# Altium schematic symbol library WR-TBL_Rising Cage Clamp.SchLib: 433 symbols (part 7 of 8)
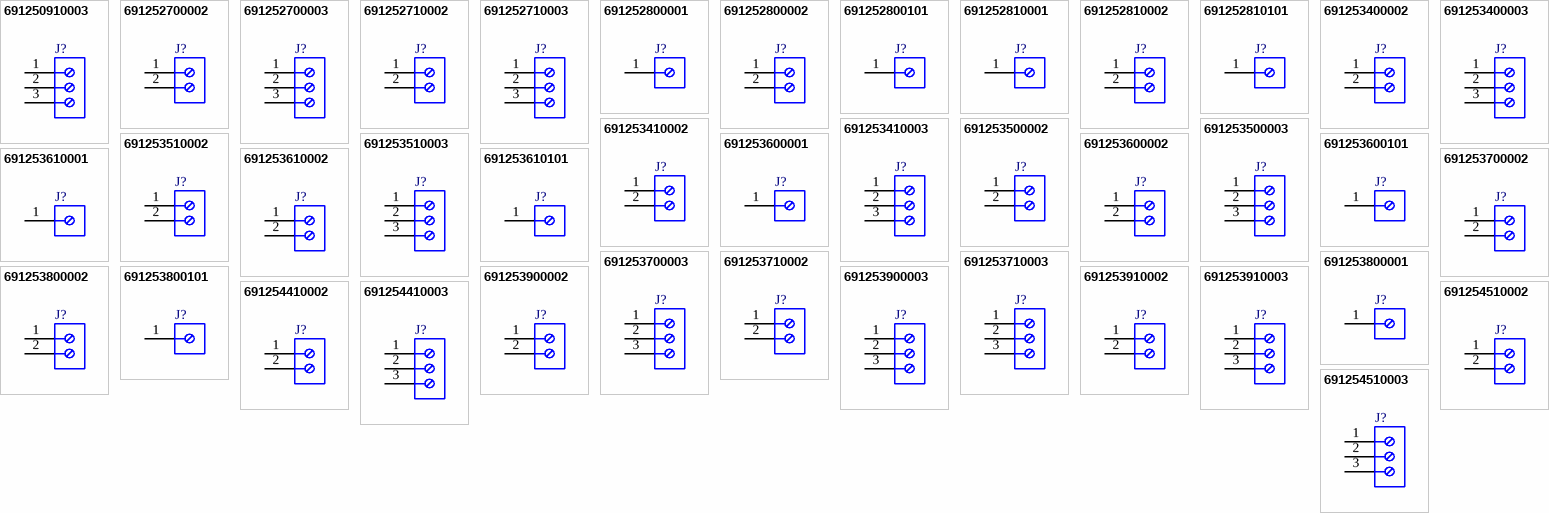
[diagram p16: symbols 691250910003 to 691254510003]

## 691252800101
designator J?  (value not drawn)
WR-TBL Series 2528 Vertical Entry Modular, THT, pitch 10mm, 01p; Manufacturer: Wurth Elektronik; Modularity: Yes; Rated Current: 16A; Wire Section: 12 to 30 (AWG) 3.31 to 0.05 (mm^2); Working Voltage: 300V (AC); Manufacturer Part Number: 691252800101; Product Series: WR-TBL; ComponentLink1Description: Website Link; ComponentLink1URL: https://www.we-online.com; ComponentLink2Description: Datasheet Link; ComponentLink2URL: https://www.we-online.com/components/products/datasheet/691252800101; Mount: Through Hole; Operating Temperature Min: -30degC; Operating Temperature Max: 120degC; Packaging: Box; Application: Rising Cage Clamp; Number of Pins: 1; Number of Rows: 1; Orientation: Vertical; Lead Pitch: 10mm
footprint 691252800101
pins: 1

## 691252810001
designator J?  (value not drawn)
WR-TBL Series 2528 Horizontal Entry Modular, THT, pitch 10mm, 01p; Manufacturer: Wurth Elektronik; Modularity: Yes; Rated Current: 16A; Wire Section: 12 to 30 (AWG) 3.31 to 0.05 (mm^2); Working Voltage: 300V (AC); Manufacturer Part Number: 691252810001; Product Series: WR-TBL; ComponentLink1Description: Website Link; ComponentLink1URL: https://www.we-online.com; ComponentLink2Description: Datasheet Link; ComponentLink2URL: https://www.we-online.com/components/products/datasheet/691252810001; Mount: Through Hole; Operating Temperature Min: -30degC; Operating Temperature Max: 120degC; Packaging: Box; Application: Rising Cage Clamp; Number of Pins: 1; Number of Rows: 1; Orientation: Horizontal; Lead Pitch: 10mm
footprint 691252810001
pins: 1

## 691252810002
designator J?  (value not drawn)
WR-TBL Series 2528 Horizontal Entry Modular, THT, pitch 10mm, 02p; Manufacturer: Wurth Elektronik; Modularity: Yes; Rated Current: 16A; Wire Section: 12 to 30 (AWG) 3.31 to 0.05 (mm^2); Working Voltage: 300V (AC); Manufacturer Part Number: 691252810002; Product Series: WR-TBL; ComponentLink1Description: Website Link; ComponentLink1URL: https://www.we-online.com; ComponentLink2Description: Datasheet Link; ComponentLink2URL: https://www.we-online.com/components/products/datasheet/691252810002; Mount: Through Hole; Operating Temperature Min: -30degC; Operating Temperature Max: 120degC; Packaging: Box; Application: Rising Cage Clamp; Number of Pins: 2; Number of Rows: 1; Orientation: Horizontal; Lead Pitch: 10mm
footprint 691252810002
pins: 1, 2

## 691252810101
designator J?  (value not drawn)
WR-TBL Series 2528 Horizontal Entry Modular, THT, pitch 10mm, 01p; Manufacturer: Wurth Elektronik; Modularity: Yes; Rated Current: 16A; Wire Section: 12 to 30 (AWG) 3.31 to 0.05 (mm^2); Working Voltage: 300V (AC); Manufacturer Part Number: 691252810101; Product Series: WR-TBL; ComponentLink1Description: Website Link; ComponentLink1URL: https://www.we-online.com; ComponentLink2Description: Datasheet Link; ComponentLink2URL: https://www.we-online.com/components/products/datasheet/691252810101; Mount: Through Hole; Operating Temperature Min: -30degC; Operating Temperature Max: 120degC; Packaging: Box; Application: Rising Cage Clamp; Number of Pins: 1; Number of Rows: 1; Orientation: Horizontal; Lead Pitch: 10mm
footprint 691252810101
pins: 1

## 691253400002
designator J?  (value not drawn)
WR-TBL Series 2534 Vertical Entry Modular, THT, pitch 7.62mm, 02p; Manufacturer: Wurth Elektronik; Modularity: Yes; Rated Current: 16A; Wire Section: 12 to 30 (AWG) 3.31 to 0.0509 (mm^2); Working Voltage: 300V (AC); Manufacturer Part Number: 691253400002; Product Series: WR-TBL; ComponentLink1Description: Website Link; ComponentLink1URL: https://www.we-online.com; ComponentLink2Description: Datasheet Link; ComponentLink2URL: https://www.we-online.com/components/products/datasheet/691253400002; Mount: Through Hole; Operating Temperature Min: -30degC; Operating Temperature Max: 120degC; Packaging: Box; Application: Rising Cage Clamp; Number of Pins: 2; Number of Rows: 1; Orientation: Vertical; Lead Pitch: 7.62mm
footprint 691253400002
pins: 1, 2

## 691253400003
designator J?  (value not drawn)
WR-TBL Series 2534 Vertical Entry Modular, THT, pitch 7.62mm, 03p; Manufacturer: Wurth Elektronik; Modularity: Yes; Rated Current: 16A; Wire Section: 12 to 30 (AWG) 3.31 to 0.0509 (mm^2); Working Voltage: 300V (AC); Manufacturer Part Number: 691253400003; Product Series: WR-TBL; ComponentLink1Description: Website Link; ComponentLink1URL: https://www.we-online.com; ComponentLink2Description: Datasheet Link; ComponentLink2URL: https://www.we-online.com/components/products/datasheet/691253400003; Mount: Through Hole; Operating Temperature Min: -30degC; Operating Temperature Max: 120degC; Packaging: Box; Application: Rising Cage Clamp; Number of Pins: 3; Number of Rows: 1; Orientation: Vertical; Lead Pitch: 7.62mm
footprint 691253400003
pins: 1, 2, 3

## 691253410002
designator J?  (value not drawn)
WR-TBL Series 2534 Horizontal Entry Modular, THT, pitch 7.62mm, 02p; Manufacturer: Wurth Elektronik; Modularity: Yes; Rated Current: 16A; Wire Section: 12 to 30 (AWG) 3.31 to 0.0509 (mm^2); Working Voltage: 300V (AC); Manufacturer Part Number: 691253410002; Product Series: WR-TBL; ComponentLink1Description: Website Link; ComponentLink1URL: https://www.we-online.com; ComponentLink2Description: Datasheet Link; ComponentLink2URL: https://www.we-online.com/components/products/datasheet/691253410002; Mount: Through Hole; Operating Temperature Min: -30degC; Operating Temperature Max: 120degC; Packaging: Box; Application: Rising Cage Clamp; Number of Pins: 2; Number of Rows: 1; Orientation: Horizontal; Lead Pitch: 7.62mm
footprint 691253410002
pins: 1, 2

## 691253410003
designator J?  (value not drawn)
WR-TBL Series 2534 Horizontal Entry Modular, THT, pitch 7.62mm, 03p; Manufacturer: Wurth Elektronik; Modularity: Yes; Rated Current: 16A; Wire Section: 12 to 30 (AWG) 3.31 to 0.0509 (mm^2); Working Voltage: 300V (AC); Manufacturer Part Number: 691253410003; Product Series: WR-TBL; ComponentLink1Description: Website Link; ComponentLink1URL: https://www.we-online.com; ComponentLink2Description: Datasheet Link; ComponentLink2URL: https://www.we-online.com/components/products/datasheet/691253410003; Mount: Through Hole; Operating Temperature Min: -30degC; Operating Temperature Max: 120degC; Packaging: Box; Application: Rising Cage Clamp; Number of Pins: 3; Number of Rows: 1; Orientation: Horizontal; Lead Pitch: 7.62mm
footprint 691253410003
pins: 1, 2, 3

## 691253500002
designator J?  (value not drawn)
WR-TBL Series 2535 Vertical Entry Modular, THT, pitch 5.08mm, 02p; Manufacturer: Wurth Elektronik; Modularity: No; Rated Current: 16A; Wire Section: 12 to 30 (AWG) 3.31 to 0.0509 (mm^2); Working Voltage: 300V (AC); Manufacturer Part Number: 691253500002; Product Series: WR-TBL; ComponentLink1Description: Website Link; ComponentLink1URL: https://www.we-online.com; ComponentLink2Description: Datasheet Link; ComponentLink2URL: https://www.we-online.com/components/products/datasheet/691253500002; Mount: Through Hole; Operating Temperature Min: -30degC; Operating Temperature Max: 120degC; Packaging: Box; Application: Rising Cage Clamp; Number of Pins: 2; Number of Rows: 1; Orientation: Vertical; Lead Pitch: 5.08mm
footprint 691253500002
pins: 1, 2

## 691253500003
designator J?  (value not drawn)
WR-TBL Series 2535 Vertical Entry Modular, THT, pitch 5.08mm, 03p; Manufacturer: Wurth Elektronik; Modularity: No; Rated Current: 16A; Wire Section: 12 to 30 (AWG) 3.31 to 0.0509 (mm^2); Working Voltage: 300V (AC); Manufacturer Part Number: 691253500003; Product Series: WR-TBL; ComponentLink1Description: Website Link; ComponentLink1URL: https://www.we-online.com; ComponentLink2Description: Datasheet Link; ComponentLink2URL: https://www.we-online.com/components/products/datasheet/691253500003; Mount: Through Hole; Operating Temperature Min: -30degC; Operating Temperature Max: 120degC; Packaging: Box; Application: Rising Cage Clamp; Number of Pins: 3; Number of Rows: 1; Orientation: Vertical; Lead Pitch: 5.08mm
footprint 691253500003
pins: 1, 2, 3

## 691253510002
designator J?  (value not drawn)
WR-TBL Series 2535 Horizontal Entry Modular, THT, pitch 5.08mm, 02p; Manufacturer: Wurth Elektronik; Modularity: Yes; Rated Current: 16A; Wire Section: 12 to 30 (AWG) 0.05 to 3.31 (mm^2); Working Voltage: 300V (AC); Manufacturer Part Number: 691253510002; Product Series: WR-TBL; ComponentLink1Description: Website Link; ComponentLink1URL: https://www.we-online.com; ComponentLink2Description: Datasheet Link; ComponentLink2URL: https://www.we-online.com/components/products/datasheet/691253510002; Mount: Through Hole; Operating Temperature Min: -30degC; Operating Temperature Max: 120degC; Packaging: Box; Application: Rising Cage Clamp; Number of Pins: 2; Number of Rows: 1; Orientation: Horizontal; Lead Pitch: 5.08mm
footprint 691253510002
pins: 1, 2

## 691253510003
designator J?  (value not drawn)
WR-TBL Series 2535 Horizontal Entry Modular, THT, pitch 5.08mm, 03p; Manufacturer: Wurth Elektronik; Modularity: Yes; Rated Current: 16A; Wire Section: 12 to 30 (AWG) 0.05 to 3.31 (mm^2); Working Voltage: 300V (AC); Manufacturer Part Number: 691253510003; Product Series: WR-TBL; ComponentLink1Description: Website Link; ComponentLink1URL: https://www.we-online.com; ComponentLink2Description: Datasheet Link; ComponentLink2URL: https://www.we-online.com/components/products/datasheet/691253510003; Mount: Through Hole; Operating Temperature Min: -30degC; Operating Temperature Max: 120degC; Packaging: Box; Application: Rising Cage Clamp; Number of Pins: 3; Number of Rows: 1; Orientation: Horizontal; Lead Pitch: 5.08mm
footprint 691253510003
pins: 1, 2, 3

## 691253600001
designator J?  (value not drawn)
WR-TBL Series 2536 Vertical Entry Modular, THT, pitch 10.16mm, 01p; Manufacturer: Wurth Elektronik; Modularity: Yes; Rated Current: 16A; Wire Section: 12 to 30 (AWG) 3.31 to 0.0509 (mm^2); Working Voltage: 300V (AC); Manufacturer Part Number: 691253600001; Product Series: WR-TBL; ComponentLink1Description: Website Link; ComponentLink1URL: https://www.we-online.com; ComponentLink2Description: Datasheet Link; ComponentLink2URL: https://www.we-online.com/components/products/datasheet/691253600001; Mount: Through Hole; Operating Temperature Min: -30degC; Operating Temperature Max: 120degC; Packaging: Box; Application: Rising Cage Clamp; Number of Pins: 1; Number of Rows: 1; Orientation: Vertical; Lead Pitch: 10.16mm
footprint 691253600001
pins: 1

## 691253600002
designator J?  (value not drawn)
WR-TBL Series 2536 Vertical Entry Modular, THT, pitch 10.16mm, 02p; Manufacturer: Wurth Elektronik; Modularity: Yes; Rated Current: 16A; Wire Section: 12 to 30 (AWG) 3.31 to 0.0509 (mm^2); Working Voltage: 300V (AC); Manufacturer Part Number: 691253600002; Product Series: WR-TBL; ComponentLink1Description: Website Link; ComponentLink1URL: https://www.we-online.com; ComponentLink2Description: Datasheet Link; ComponentLink2URL: https://www.we-online.com/components/products/datasheet/691253600002; Mount: Through Hole; Operating Temperature Min: -30degC; Operating Temperature Max: 120degC; Packaging: Box; Application: Rising Cage Clamp; Number of Pins: 2; Number of Rows: 1; Orientation: Vertical; Lead Pitch: 10.16mm
footprint 691253600002
pins: 1, 2

## 691253600101
designator J?  (value not drawn)
WR-TBL Series 2536 Vertical Entry Modular, THT, pitch 10.16mm, 01p; Manufacturer: Wurth Elektronik; Modularity: Yes; Rated Current: 16A; Wire Section: 12 to 30 (AWG) 3.31 to 0.0509 (mm^2); Working Voltage: 300V (AC); Manufacturer Part Number: 691253600101; Product Series: WR-TBL; ComponentLink1Description: Website Link; ComponentLink1URL: https://www.we-online.com; ComponentLink2Description: Datasheet Link; ComponentLink2URL: https://www.we-online.com/components/products/datasheet/691253600101; Mount: Through Hole; Operating Temperature Min: -30degC; Operating Temperature Max: 120degC; Packaging: Box; Application: Rising Cage Clamp; Number of Pins: 1; Number of Rows: 1; Orientation: Vertical; Lead Pitch: 10.16mm
footprint 691253600101
pins: 1

## 691253610001
designator J?  (value not drawn)
WR-TBL Series 2536 Horizontal Entry Modular, THT, pitch 10.16mm, 01p; Manufacturer: Wurth Elektronik; Modularity: Yes; Rated Current: 16A; Wire Section: 12 to 30 (AWG) 3.31 to 0.0509 (mm^2); Working Voltage: 300V (AC); Manufacturer Part Number: 691253610001; Product Series: WR-TBL; ComponentLink1Description: Website Link; ComponentLink1URL: https://www.we-online.com; ComponentLink2Description: Datasheet Link; ComponentLink2URL: https://www.we-online.com/components/products/datasheet/691253610001; Mount: Through Hole; Operating Temperature Min: -30degC; Operating Temperature Max: 120degC; Packaging: Box; Application: Rising Cage Clamp; Number of Pins: 1; Number of Rows: 1; Orientation: Horizontal; Lead Pitch: 10.16mm
footprint 691253610001
pins: 1

## 691253610002
designator J?  (value not drawn)
WR-TBL Series 2536 Horizontal Entry Modular, THT, pitch 10.16mm, 02p; Manufacturer: Wurth Elektronik; Modularity: Yes; Rated Current: 16A; Wire Section: 12 to 30 (AWG) 3.31 to 0.0509 (mm^2); Working Voltage: 300V (AC); Manufacturer Part Number: 691253610002; Product Series: WR-TBL; ComponentLink1Description: Website Link; ComponentLink1URL: https://www.we-online.com; ComponentLink2Description: Datasheet Link; ComponentLink2URL: https://www.we-online.com/components/products/datasheet/691253610002; Mount: Through Hole; Operating Temperature Min: -30degC; Operating Temperature Max: 120degC; Packaging: Box; Application: Rising Cage Clamp; Number of Pins: 2; Number of Rows: 1; Orientation: Horizontal; Lead Pitch: 10.16mm
footprint 691253610002
pins: 1, 2

## 691253610101
designator J?  (value not drawn)
WR-TBL Series 2536 Horizontal Entry Modular, THT, pitch 10.16mm, 01p; Manufacturer: Wurth Elektronik; Modularity: Yes; Rated Current: 16A; Wire Section: 12 to 30 (AWG) 3.31 to 0.0509 (mm^2); Working Voltage: 300V (AC); Manufacturer Part Number: 691253610101; Product Series: WR-TBL; ComponentLink1Description: Website Link; ComponentLink1URL: https://www.we-online.com; ComponentLink2Description: Datasheet Link; ComponentLink2URL: https://www.we-online.com/components/products/datasheet/691253610101; Mount: Through Hole; Operating Temperature Min: -30degC; Operating Temperature Max: 120degC; Packaging: Box; Application: Rising Cage Clamp; Number of Pins: 1; Number of Rows: 1; Orientation: Horizontal; Lead Pitch: 10.16mm
footprint 691253610101
pins: 1

## 691253700002
designator J?  (value not drawn)
WR-TBL Series 2537 Vertical Entry Modular, THT, pitch 5mm, 02p; Manufacturer: Wurth Elektronik; Modularity: Yes; Rated Current: 16A; Wire Section: 30 to 12 (AWG) 0.0509 to 3.31 (mm^2); Working Voltage: 300V (AC); Manufacturer Part Number: 691253700002; Product Series: WR-TBL; ComponentLink1Description: Website Link; ComponentLink1URL: https://www.we-online.com; ComponentLink2Description: Datasheet Link; ComponentLink2URL: https://www.we-online.com/components/products/datasheet/691253700002; Mount: Through Hole; Operating Temperature Min: -30degC; Operating Temperature Max: 120degC; Packaging: Box; Application: Rising Cage Clamp; Number of Pins: 2; Number of Rows: 1; Orientation: Vertical; Lead Pitch: 5mm
footprint 691253700002
pins: 1, 2

## 691253700003
designator J?  (value not drawn)
WR-TBL Series 2537 Vertical Entry Modular, THT, pitch 5mm, 03p; Manufacturer: Wurth Elektronik; Modularity: Yes; Rated Current: 16A; Wire Section: 30 to 12 (AWG) 0.0509 to 3.31 (mm^2); Working Voltage: 300V (AC); Manufacturer Part Number: 691253700003; Product Series: WR-TBL; ComponentLink1Description: Website Link; ComponentLink1URL: https://www.we-online.com; ComponentLink2Description: Datasheet Link; ComponentLink2URL: https://www.we-online.com/components/products/datasheet/691253700003; Mount: Through Hole; Operating Temperature Min: -30degC; Operating Temperature Max: 120degC; Packaging: Box; Application: Rising Cage Clamp; Number of Pins: 3; Number of Rows: 1; Orientation: Vertical; Lead Pitch: 5mm
footprint 691253700003
pins: 1, 2, 3

## 691253710002
designator J?  (value not drawn)
WR-TBL Series 2537 Horizontal Entry Modular, THT, pitch 5mm, 02p; Manufacturer: Wurth Elektronik; Modularity: Yes; Rated Current: 16A; Wire Section: 30 to 12 (AWG) 0.0509 to 3.31 (mm^2); Working Voltage: 300V (AC); Manufacturer Part Number: 691253710002; Product Series: WR-TBL; ComponentLink1Description: Website Link; ComponentLink1URL: https://www.we-online.com; ComponentLink2Description: Datasheet Link; ComponentLink2URL: https://www.we-online.com/components/products/datasheet/691253710002; Mount: Through Hole; Operating Temperature Min: -30degC; Operating Temperature Max: 120degC; Packaging: Box; Application: Rising Cage Clamp; Number of Pins: 2; Number of Rows: 1; Orientation: Horizontal; Lead Pitch: 5mm
footprint 691253710002
pins: 1, 2

## 691253710003
designator J?  (value not drawn)
WR-TBL Series 2537 Horizontal Entry Modular, THT, pitch 5mm, 03p; Manufacturer: Wurth Elektronik; Modularity: Yes; Rated Current: 16A; Wire Section: 30 to 12 (AWG) 0.0509 to 3.31 (mm^2); Working Voltage: 300V (AC); Manufacturer Part Number: 691253710003; Product Series: WR-TBL; ComponentLink1Description: Website Link; ComponentLink1URL: https://www.we-online.com; ComponentLink2Description: Datasheet Link; ComponentLink2URL: https://www.we-online.com/components/products/datasheet/691253710003; Mount: Through Hole; Operating Temperature Min: -30degC; Operating Temperature Max: 120degC; Packaging: Box; Application: Rising Cage Clamp; Number of Pins: 3; Number of Rows: 1; Orientation: Horizontal; Lead Pitch: 5mm
footprint 691253710003
pins: 1, 2, 3

## 691253800001
designator J?  (value not drawn)
WR-TBL Series 2538 Vertical Entry Modular, THT, pitch 10mm, 01p; Manufacturer: Wurth Elektronik; Modularity: Yes; Rated Current: 16A; Wire Section: 12 to 30 (AWG) 3.31 to 0.0509 (mm^2); Working Voltage: 300V (AC); Manufacturer Part Number: 691253800001; Product Series: WR-TBL; ComponentLink1Description: Website Link; ComponentLink1URL: https://www.we-online.com; ComponentLink2Description: Datasheet Link; ComponentLink2URL: https://www.we-online.com/components/products/datasheet/691253800001; Mount: Through Hole; Operating Temperature Min: -30degC; Operating Temperature Max: 120degC; Packaging: Box; Application: Rising Cage Clamp; Number of Pins: 1; Number of Rows: 1; Orientation: Vertical; Lead Pitch: 10mm
footprint 691253800001
pins: 1

## 691253800002
designator J?  (value not drawn)
WR-TBL Series 2538 Vertical Entry Modular, THT, pitch 10mm, 02p; Manufacturer: Wurth Elektronik; Modularity: Yes; Rated Current: 16A; Wire Section: 12 to 30 (AWG) 3.31 to 0.0509 (mm^2); Working Voltage: 300V (AC); Manufacturer Part Number: 691253800002; Product Series: WR-TBL; ComponentLink1Description: Website Link; ComponentLink1URL: https://www.we-online.com; ComponentLink2Description: Datasheet Link; ComponentLink2URL: https://www.we-online.com/components/products/datasheet/691253800002; Mount: Through Hole; Operating Temperature Min: -30degC; Operating Temperature Max: 120degC; Packaging: Box; Application: Rising Cage Clamp; Number of Pins: 2; Number of Rows: 1; Orientation: Vertical; Lead Pitch: 10mm
footprint 691253800002
pins: 1, 2

## 691253800101
designator J?  (value not drawn)
WR-TBL Series 2538 Vertical Entry Modular, THT, pitch 10mm, 01p; Manufacturer: Wurth Elektronik; Modularity: Yes; Rated Current: 16A; Wire Section: 12 to 30 (AWG) 3.31 to 0.0509 (mm^2); Working Voltage: 300V (AC); Manufacturer Part Number: 691253800101; Product Series: WR-TBL; ComponentLink1Description: Website Link; ComponentLink1URL: https://www.we-online.com; ComponentLink2Description: Datasheet Link; ComponentLink2URL: https://www.we-online.com/components/products/datasheet/691253800101; Mount: Through Hole; Operating Temperature Min: -30degC; Operating Temperature Max: 120degC; Packaging: Box; Application: Rising Cage Clamp; Number of Pins: 1; Number of Rows: 1; Orientation: Vertical; Lead Pitch: 10mm
footprint 691253800101
pins: 1

## 691253900002
designator J?  (value not drawn)
WR-TBL Series 2539 Vertical Entry Modular, THT, pitch 7.5mm, 02p; Manufacturer: Wurth Elektronik; Modularity: Yes; Rated Current: 16A; Wire Section: 12 to 30 (AWG) 3.31 to 0.0509 (mm^2); Working Voltage: 300V (AC); Manufacturer Part Number: 691253900002; Product Series: WR-TBL; ComponentLink1Description: Website Link; ComponentLink1URL: https://www.we-online.com; ComponentLink2Description: Datasheet Link; ComponentLink2URL: https://www.we-online.com/components/products/datasheet/691253900002; Mount: Through Hole; Operating Temperature Min: -30degC; Operating Temperature Max: 120degC; Packaging: Box; Application: Rising Cage Clamp; Number of Pins: 2; Number of Rows: 1; Orientation: Vertical; Lead Pitch: 7.5mm
footprint 691253900002
pins: 1, 2

## 691253900003
designator J?  (value not drawn)
WR-TBL Series 2539 Vertical Entry Modular, THT, pitch 7.5mm, 03p; Manufacturer: Wurth Elektronik; Modularity: Yes; Rated Current: 16A; Wire Section: 12 to 30 (AWG) 3.31 to 0.0509 (mm^2); Working Voltage: 300V (AC); Manufacturer Part Number: 691253900003; Product Series: WR-TBL; ComponentLink1Description: Website Link; ComponentLink1URL: https://www.we-online.com; ComponentLink2Description: Datasheet Link; ComponentLink2URL: https://www.we-online.com/components/products/datasheet/691253900003; Mount: Through Hole; Operating Temperature Min: -30degC; Operating Temperature Max: 120degC; Packaging: Box; Application: Rising Cage Clamp; Number of Pins: 3; Number of Rows: 1; Orientation: Vertical; Lead Pitch: 7.5mm
footprint 691253900003
pins: 1, 2, 3

## 691253910002
designator J?  (value not drawn)
WR-TBL Series 2539 Horizontal Entry Modular, THT, pitch 7.5mm, 02p; Manufacturer: Wurth Elektronik; Modularity: Yes; Rated Current: 16A; Wire Section: 12 to 30 (AWG) 3.31 to 0.0509 (mm^2); Working Voltage: 300V (AC); Manufacturer Part Number: 691253910002; Product Series: WR-TBL; ComponentLink1Description: Website Link; ComponentLink1URL: https://www.we-online.com; ComponentLink2Description: Datasheet Link; ComponentLink2URL: https://www.we-online.com/components/products/datasheet/691253910002; Mount: Through Hole; Operating Temperature Min: -30degC; Operating Temperature Max: 120degC; Packaging: Box; Application: Rising Cage Clamp; Number of Pins: 2; Number of Rows: 1; Orientation: Horizontal; Lead Pitch: 7.5mm
footprint 691253910002
pins: 1, 2

## 691253910003
designator J?  (value not drawn)
WR-TBL Series 2539 Horizontal Entry Modular, THT, pitch 7.5mm, 03p; Manufacturer: Wurth Elektronik; Modularity: Yes; Rated Current: 16A; Wire Section: 12 to 30 (AWG) 3.31 to 0.0509 (mm^2); Working Voltage: 300V (AC); Manufacturer Part Number: 691253910003; Product Series: WR-TBL; ComponentLink1Description: Website Link; ComponentLink1URL: https://www.we-online.com; ComponentLink2Description: Datasheet Link; ComponentLink2URL: https://www.we-online.com/components/products/datasheet/691253910003; Mount: Through Hole; Operating Temperature Min: -30degC; Operating Temperature Max: 120degC; Packaging: Box; Application: Rising Cage Clamp; Number of Pins: 3; Number of Rows: 1; Orientation: Horizontal; Lead Pitch: 7.5mm
footprint 691253910003
pins: 1, 2, 3

## 691254410002
designator J?  (value not drawn)
WR-TBL Series 2544 Horizontal Entry Dual Pin, THT, pitch 7.62mm, 02p; Manufacturer: Wurth Elektronik; Modularity: Yes; Rated Current: 16A; Wire Section: 12 to 30 (AWG) 3.31 to 0.0509 (mm^2); Working Voltage: 300V (AC); Manufacturer Part Number: 691254410002; Product Series: WR-TBL; ComponentLink1Description: Website Link; ComponentLink1URL: https://www.we-online.com; ComponentLink2Description: Datasheet Link; ComponentLink2URL: https://www.we-online.com/components/products/datasheet/691254410002; Mount: Through Hole; Operating Temperature Min: -30degC; Operating Temperature Max: 120degC; Packaging: Box; Application: Rising Cage Clamp; Number of Pins: 2; Number of Rows: 1; Orientation: Horizontal; Lead Pitch: 7.62mm
footprint 691254410002
pins: 1, 2

## 691254410003
designator J?  (value not drawn)
WR-TBL Series 2544 Horizontal Entry Dual Pin, THT, pitch 7.62mm, 03p; Manufacturer: Wurth Elektronik; Modularity: Yes; Rated Current: 16A; Wire Section: 12 to 30 (AWG) 3.31 to 0.0509 (mm^2); Working Voltage: 300V (AC); Manufacturer Part Number: 691254410003; Product Series: WR-TBL; ComponentLink1Description: Website Link; ComponentLink1URL: https://www.we-online.com; ComponentLink2Description: Datasheet Link; ComponentLink2URL: https://www.we-online.com/components/products/datasheet/691254410003; Mount: Through Hole; Operating Temperature Min: -30degC; Operating Temperature Max: 120degC; Packaging: Box; Application: Rising Cage Clamp; Number of Pins: 3; Number of Rows: 1; Orientation: Horizontal; Lead Pitch: 7.62mm
footprint 691254410003
pins: 1, 2, 3

## 691254510002
designator J?  (value not drawn)
WR-TBL Series 2545 Horizontal Cable Entry, THT, pitch 5.08mm, 02p; Manufacturer: Wurth Elektronik; Modularity: Yes; Rated Current: 16A; Wire Section: 12 to 30 (AWG) 3.31 to 0.05 (mm^2); Working Voltage: 300V (AC); Manufacturer Part Number: 691254510002; Product Series: WR-TBL; ComponentLink1Description: Website Link; ComponentLink1URL: https://www.we-online.com; ComponentLink2Description: Datasheet Link; ComponentLink2URL: https://www.we-online.com/components/products/datasheet/691254510002; Mount: Through Hole; Operating Temperature Min: -30degC; Operating Temperature Max: 120degC; Packaging: Box; Application: Rising Cage Clamp; Number of Pins: 2; Number of Rows: 1; Orientation: Horizontal; Lead Pitch: 5.08mm
footprint 691254510002
pins: 1, 2

## 691254510003
designator J?  (value not drawn)
WR-TBL Series 2545 Horizontal Cable Entry, THT, pitch 5.08mm, 03p; Manufacturer: Wurth Elektronik; Modularity: Yes; Rated Current: 16A; Wire Section: 12 to 30 (AWG) 3.31 to 0.05 (mm^2); Working Voltage: 300V (AC); Manufacturer Part Number: 691254510003; Product Series: WR-TBL; ComponentLink1Description: Website Link; ComponentLink1URL: https://www.we-online.com; ComponentLink2Description: Datasheet Link; ComponentLink2URL: https://www.we-online.com/components/products/datasheet/691254510003; Mount: Through Hole; Operating Temperature Min: -30degC; Operating Temperature Max: 120degC; Packaging: Box; Application: Rising Cage Clamp; Number of Pins: 3; Number of Rows: 1; Orientation: Horizontal; Lead Pitch: 5.08mm
footprint 691254510003
pins: 1, 2, 3

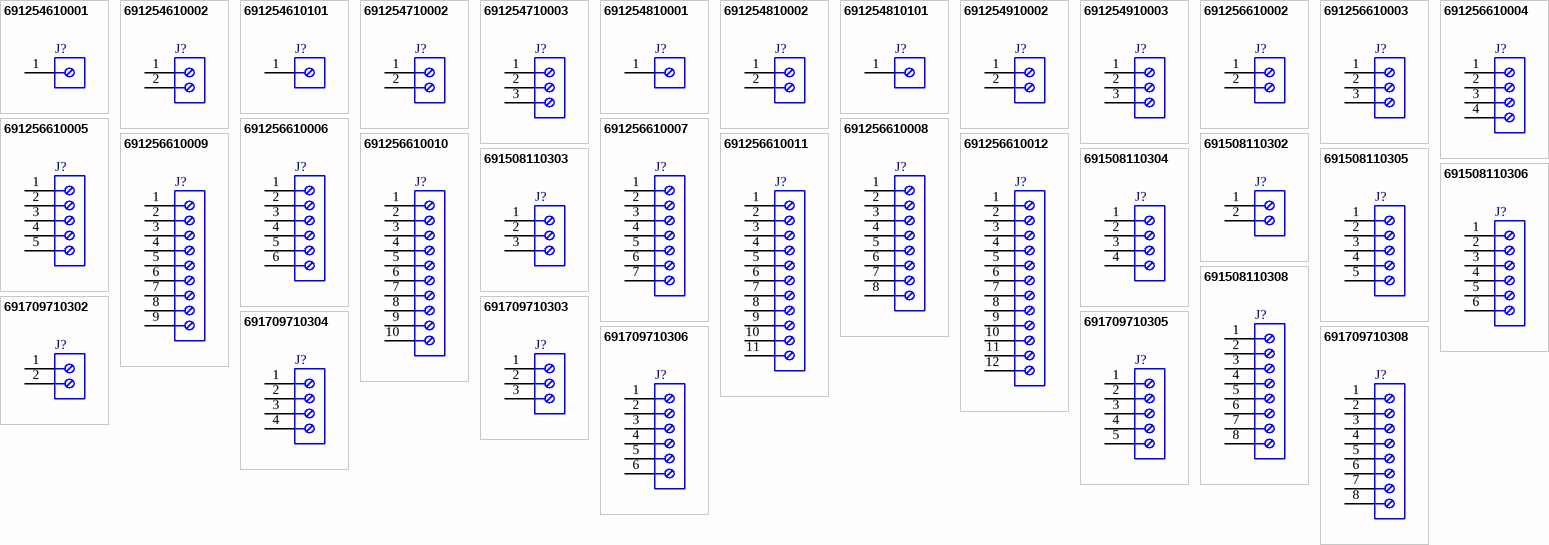
[diagram p10: symbols 691254610001 to 691709710308]

## 691254610001
designator J?  (value not drawn)
WR-TBL Series 2546 Horizontal Cable Entry, THT, pitch 10.16mm, 01p; Manufacturer: Wurth Elektronik; Modularity: Yes; Rated Current: 16A; Wire Section: 12 to 30 (AWG) 3.31 to 0.05 (mm^2); Working Voltage: 300V (AC); Manufacturer Part Number: 691254610001; Product Series: WR-TBL; ComponentLink1Description: Website Link; ComponentLink1URL: https://www.we-online.com; ComponentLink2Description: Datasheet Link; ComponentLink2URL: https://www.we-online.com/components/products/datasheet/691254610001; Mount: Through Hole; Operating Temperature Min: -30degC; Operating Temperature Max: 120degC; Packaging: Box; Application: Rising Cage Clamp; Number of Pins: 1; Number of Rows: 1; Orientation: Horizontal; Lead Pitch: 10.16mm
footprint 691254610001
pins: 1

## 691254610002
designator J?  (value not drawn)
WR-TBL Series 2546 Horizontal Cable Entry, THT, pitch 10.16mm, 02p; Manufacturer: Wurth Elektronik; Modularity: Yes; Rated Current: 16A; Wire Section: 12 to 30 (AWG) 3.31 to 0.05 (mm^2); Working Voltage: 300V (AC); Manufacturer Part Number: 691254610002; Product Series: WR-TBL; ComponentLink1Description: Website Link; ComponentLink1URL: https://www.we-online.com; ComponentLink2Description: Datasheet Link; ComponentLink2URL: https://www.we-online.com/components/products/datasheet/691254610002; Mount: Through Hole; Operating Temperature Min: -30degC; Operating Temperature Max: 120degC; Packaging: Box; Application: Rising Cage Clamp; Number of Pins: 2; Number of Rows: 1; Orientation: Horizontal; Lead Pitch: 10.16mm
footprint 691254610002
pins: 1, 2

## 691254610101
designator J?  (value not drawn)
WR-TBL Series 2546 Horizontal Cable Entry, THT, pitch 10.16mm, 01p; Manufacturer: Wurth Elektronik; Modularity: Yes; Rated Current: 16A; Wire Section: 12 to 30 (AWG) 3.31 to 0.05 (mm^2); Working Voltage: 300V (AC); Manufacturer Part Number: 691254610101; Product Series: WR-TBL; ComponentLink1Description: Website Link; ComponentLink1URL: https://www.we-online.com; ComponentLink2Description: Datasheet Link; ComponentLink2URL: https://www.we-online.com/components/products/datasheet/691254610101; Mount: Through Hole; Operating Temperature Min: -30degC; Operating Temperature Max: 120degC; Packaging: Box; Application: Rising Cage Clamp; Number of Pins: 1; Number of Rows: 1; Orientation: Horizontal; Lead Pitch: 10.16mm
footprint 691254610101
pins: 1

## 691254710002
designator J?  (value not drawn)
WR-TBL Series 2547 Horizontal Cable Entry, THT, pitch 5mm, 02p; Manufacturer: Wurth Elektronik; Modularity: Yes; Rated Current: 16A; Wire Section: 16 to 30 (AWG) 1.31 to 0.0509 (mm^2); Working Voltage: 300V (AC); Manufacturer Part Number: 691254710002; Product Series: WR-TBL; ComponentLink1Description: Website Link; ComponentLink1URL: https://www.we-online.com; ComponentLink2Description: Datasheet Link; ComponentLink2URL: https://www.we-online.com/components/products/datasheet/691254710002; Mount: Through Hole; Operating Temperature Min: -30degC; Operating Temperature Max: 120degC; Packaging: Box; Application: Rising Cage Clamp; Number of Pins: 2; Number of Rows: 1; Orientation: Horizontal; Lead Pitch: 5mm
footprint 691254710002
pins: 1, 2

## 691254710003
designator J?  (value not drawn)
WR-TBL Series 2547 Horizontal Cable Entry, THT, pitch 5mm, 03p; Manufacturer: Wurth Elektronik; Modularity: Yes; Rated Current: 16A; Wire Section: 16 to 30 (AWG) 1.31 to 0.0509 (mm^2); Working Voltage: 300V (AC); Manufacturer Part Number: 691254710003; Product Series: WR-TBL; ComponentLink1Description: Website Link; ComponentLink1URL: https://www.we-online.com; ComponentLink2Description: Datasheet Link; ComponentLink2URL: https://www.we-online.com/components/products/datasheet/691254710003; Mount: Through Hole; Operating Temperature Min: -30degC; Operating Temperature Max: 120degC; Packaging: Box; Application: Rising Cage Clamp; Number of Pins: 3; Number of Rows: 1; Orientation: Horizontal; Lead Pitch: 5mm
footprint 691254710003
pins: 1, 2, 3

## 691254810001
designator J?  (value not drawn)
WR-TBL Series 2548 Horizontal Cable Entry, THT, pitch 10mm, 01p; Manufacturer: Wurth Elektronik; Modularity: Yes; Rated Current: 16A; Wire Section: 12 to 30 (AWG) 3.31 to 0.05 (mm^2); Working Voltage: 300V (AC); Manufacturer Part Number: 691254810001; Product Series: WR-TBL; ComponentLink1Description: Website Link; ComponentLink1URL: https://www.we-online.com; ComponentLink2Description: Datasheet Link; ComponentLink2URL: https://www.we-online.com/components/products/datasheet/691254810001; Mount: Through Hole; Operating Temperature Min: -30degC; Operating Temperature Max: 120degC; Packaging: Box; Application: Rising Cage Clamp; Number of Pins: 1; Number of Rows: 1; Orientation: Horizontal; Lead Pitch: 10mm
footprint 691254810001
pins: 1

## 691254810002
designator J?  (value not drawn)
WR-TBL Series 2548 Horizontal Cable Entry, THT, pitch 10mm, 02p; Manufacturer: Wurth Elektronik; Modularity: Yes; Rated Current: 16A; Wire Section: 12 to 30 (AWG) 3.31 to 0.05 (mm^2); Working Voltage: 300V (AC); Manufacturer Part Number: 691254810002; Product Series: WR-TBL; ComponentLink1Description: Website Link; ComponentLink1URL: https://www.we-online.com; ComponentLink2Description: Datasheet Link; ComponentLink2URL: https://www.we-online.com/components/products/datasheet/691254810002; Mount: Through Hole; Operating Temperature Min: -30degC; Operating Temperature Max: 120degC; Packaging: Box; Application: Rising Cage Clamp; Number of Pins: 2; Number of Rows: 1; Orientation: Horizontal; Lead Pitch: 10mm
footprint 691254810002
pins: 1, 2

## 691254810101
designator J?  (value not drawn)
WR-TBL Series 2548 Horizontal Cable Entry, THT, pitch 10mm, 01p; Manufacturer: Wurth Elektronik; Modularity: Yes; Rated Current: 16A; Wire Section: 12 to 30 (AWG) 3.31 to 0.05 (mm^2); Working Voltage: 300V (AC); Manufacturer Part Number: 691254810101; Product Series: WR-TBL; ComponentLink1Description: Website Link; ComponentLink1URL: https://www.we-online.com; ComponentLink2Description: Datasheet Link; ComponentLink2URL: https://www.we-online.com/components/products/datasheet/691254810101; Mount: Through Hole; Operating Temperature Min: -30degC; Operating Temperature Max: 120degC; Packaging: Box; Application: Rising Cage Clamp; Number of Pins: 1; Number of Rows: 1; Orientation: Horizontal; Lead Pitch: 10mm
footprint 691254810101
pins: 1

## 691254910002
designator J?  (value not drawn)
WR-TBL Series 2549 Horizontal Cable Entry, THT, pitch 7.5mm, 02p; Manufacturer: Wurth Elektronik; Modularity: Yes; Rated Current: 16A; Wire Section: 12 to 30 (AWG) 3.31 to 0.05 (mm^2); Working Voltage: 300V (AC); Manufacturer Part Number: 691254910002; Product Series: WR-TBL; ComponentLink1Description: Website Link; ComponentLink1URL: https://www.we-online.com; ComponentLink2Description: Datasheet Link; ComponentLink2URL: https://www.we-online.com/components/products/datasheet/691254910002; Mount: Through Hole; Operating Temperature Min: -30degC; Operating Temperature Max: 120degC; Packaging: Box; Application: Rising Cage Clamp; Number of Pins: 2; Number of Rows: 1; Orientation: Horizontal; Lead Pitch: 7.5mm
footprint 691254910002
pins: 1, 2

## 691254910003
designator J?  (value not drawn)
WR-TBL Series 2549 Horizontal Cable Entry, THT, pitch 7.5mm, 03p; Manufacturer: Wurth Elektronik; Modularity: Yes; Rated Current: 16A; Wire Section: 12 to 30 (AWG) 3.31 to 0.05 (mm^2); Working Voltage: 300V (AC); Manufacturer Part Number: 691254910003; Product Series: WR-TBL; ComponentLink1Description: Website Link; ComponentLink1URL: https://www.we-online.com; ComponentLink2Description: Datasheet Link; ComponentLink2URL: https://www.we-online.com/components/products/datasheet/691254910003; Mount: Through Hole; Operating Temperature Min: -30degC; Operating Temperature Max: 120degC; Packaging: Box; Application: Rising Cage Clamp; Number of Pins: 3; Number of Rows: 1; Orientation: Horizontal; Lead Pitch: 7.5mm
footprint 691254910003
pins: 1, 2, 3

## 691256610002
designator J?  (value not drawn)
WR-TBL Series 2566 Horizontal Entry, THT, pitch 10.16mm, 02p; Manufacturer: Wurth Elektronik; Modularity: No; Rated Current: 40A; Wire Section: 6 to 20 (AWG) 13.30 to 0.52 (mm^2); Working Voltage: 300V (AC); Manufacturer Part Number: 691256610002; Product Series: WR-TBL; ComponentLink1Description: Website Link; ComponentLink1URL: https://www.we-online.com; ComponentLink2Description: Datasheet Link; ComponentLink2URL: https://www.we-online.com/components/products/datasheet/691256610002; Mount: Through Hole; Operating Temperature Min: -30degC; Operating Temperature Max: 120degC; Packaging: Box; Application: Rising Cage Clamp; Number of Pins: 2; Number of Rows: 1; Orientation: Horizontal; Lead Pitch: 10.16mm
footprint 691256610002
pins: 1, 2

## 691256610003
designator J?  (value not drawn)
WR-TBL Series 2566 Horizontal Entry, THT, pitch 10.16mm, 03p; Manufacturer: Wurth Elektronik; Modularity: No; Rated Current: 40A; Wire Section: 6 to 20 (AWG) 13.30 to 0.52 (mm^2); Working Voltage: 300V (AC); Manufacturer Part Number: 691256610003; Product Series: WR-TBL; ComponentLink1Description: Website Link; ComponentLink1URL: https://www.we-online.com; ComponentLink2Description: Datasheet Link; ComponentLink2URL: https://www.we-online.com/components/products/datasheet/691256610003; Mount: Through Hole; Operating Temperature Min: -30degC; Operating Temperature Max: 120degC; Packaging: Box; Application: Rising Cage Clamp; Number of Pins: 3; Number of Rows: 1; Orientation: Horizontal; Lead Pitch: 10.16mm
footprint 691256610003
pins: 1, 2, 3

## 691256610004
designator J?  (value not drawn)
WR-TBL Series 2566 Horizontal Entry, THT, pitch 10.16mm, 04p; Manufacturer: Wurth Elektronik; Modularity: No; Rated Current: 40A; Wire Section: 6 to 20 (AWG) 13.30 to 0.52 (mm^2); Working Voltage: 300V (AC); Manufacturer Part Number: 691256610004; Product Series: WR-TBL; ComponentLink1Description: Website Link; ComponentLink1URL: https://www.we-online.com; ComponentLink2Description: Datasheet Link; ComponentLink2URL: https://www.we-online.com/components/products/datasheet/691256610004; Mount: Through Hole; Operating Temperature Min: -30degC; Operating Temperature Max: 120degC; Packaging: Box; Application: Rising Cage Clamp; Number of Pins: 4; Number of Rows: 1; Orientation: Horizontal; Lead Pitch: 10.16mm
footprint 691256610004
pins: 1, 2, 3, 4

## 691256610005
designator J?  (value not drawn)
WR-TBL Series 2566 Horizontal Entry, THT, pitch 10.16mm, 05p; Manufacturer: Wurth Elektronik; Modularity: No; Rated Current: 40A; Wire Section: 6 to 20 (AWG) 13.30 to 0.52 (mm^2); Working Voltage: 300V (AC); Manufacturer Part Number: 691256610005; Product Series: WR-TBL; ComponentLink1Description: Website Link; ComponentLink1URL: https://www.we-online.com; ComponentLink2Description: Datasheet Link; ComponentLink2URL: https://www.we-online.com/components/products/datasheet/691256610005; Mount: Through Hole; Operating Temperature Min: -30degC; Operating Temperature Max: 120degC; Packaging: Box; Application: Rising Cage Clamp; Number of Pins: 5; Number of Rows: 1; Orientation: Horizontal; Lead Pitch: 10.16mm
footprint 691256610005
pins: 1, 2, 3, 4, 5

## 691256610006
designator J?  (value not drawn)
WR-TBL Series 2566 Horizontal Entry, THT, pitch 10.16mm, 06p; Manufacturer: Wurth Elektronik; Modularity: No; Rated Current: 40A; Wire Section: 6 to 20 (AWG) 13.30 to 0.52 (mm^2); Working Voltage: 300V (AC); Manufacturer Part Number: 691256610006; Product Series: WR-TBL; ComponentLink1Description: Website Link; ComponentLink1URL: https://www.we-online.com; ComponentLink2Description: Datasheet Link; ComponentLink2URL: https://www.we-online.com/components/products/datasheet/691256610006; Mount: Through Hole; Operating Temperature Min: -30degC; Operating Temperature Max: 120degC; Packaging: Box; Application: Rising Cage Clamp; Number of Pins: 6; Number of Rows: 1; Orientation: Horizontal; Lead Pitch: 10.16mm
footprint 691256610006
pins: 1, 2, 3, 4, 5, 6

## 691256610007
designator J?  (value not drawn)
WR-TBL Series 2566 Horizontal Entry, THT, pitch 10.16mm, 07p; Manufacturer: Wurth Elektronik; Modularity: No; Rated Current: 40A; Wire Section: 6 to 20 (AWG) 13.30 to 0.52 (mm^2); Working Voltage: 300V (AC); Manufacturer Part Number: 691256610007; Product Series: WR-TBL; ComponentLink1Description: Website Link; ComponentLink1URL: https://www.we-online.com; ComponentLink2Description: Datasheet Link; ComponentLink2URL: https://www.we-online.com/components/products/datasheet/691256610007; Mount: Through Hole; Operating Temperature Min: -30degC; Operating Temperature Max: 120degC; Packaging: Box; Application: Rising Cage Clamp; Number of Pins: 7; Number of Rows: 1; Orientation: Horizontal; Lead Pitch: 10.16mm
footprint 691256610007
pins: 1, 2, 3, 4, 5, 6, 7

## 691256610008
designator J?  (value not drawn)
WR-TBL Series 2566 Horizontal Entry, THT, pitch 10.16mm, 08p; Manufacturer: Wurth Elektronik; Modularity: No; Rated Current: 40A; Wire Section: 6 to 20 (AWG) 13.30 to 0.52 (mm^2); Working Voltage: 300V (AC); Manufacturer Part Number: 691256610008; Product Series: WR-TBL; ComponentLink1Description: Website Link; ComponentLink1URL: https://www.we-online.com; ComponentLink2Description: Datasheet Link; ComponentLink2URL: https://www.we-online.com/components/products/datasheet/691256610008; Mount: Through Hole; Operating Temperature Min: -30degC; Operating Temperature Max: 120degC; Packaging: Box; Application: Rising Cage Clamp; Number of Pins: 8; Number of Rows: 1; Orientation: Horizontal; Lead Pitch: 10.16mm
footprint 691256610008
pins: 1, 2, 3, 4, 5, 6, 7, 8

## 691256610009
designator J?  (value not drawn)
WR-TBL Series 2566 Horizontal Entry, THT, pitch 10.16mm, 09p; Manufacturer: Wurth Elektronik; Modularity: No; Rated Current: 40A; Wire Section: 6 to 20 (AWG) 13.30 to 0.52 (mm^2); Working Voltage: 300V (AC); Manufacturer Part Number: 691256610009; Product Series: WR-TBL; ComponentLink1Description: Website Link; ComponentLink1URL: https://www.we-online.com; ComponentLink2Description: Datasheet Link; ComponentLink2URL: https://www.we-online.com/components/products/datasheet/691256610009; Mount: Through Hole; Operating Temperature Min: -30degC; Operating Temperature Max: 120degC; Packaging: Box; Application: Rising Cage Clamp; Number of Pins: 9; Number of Rows: 1; Orientation: Horizontal; Lead Pitch: 10.16mm
footprint 691256610009
pins: 1, 2, 3, 4, 5, 6, 7, 8, 9

## 691256610010
designator J?  (value not drawn)
WR-TBL Series 2566 Horizontal Entry, THT, pitch 10.16mm, 10p; Manufacturer: Wurth Elektronik; Modularity: No; Rated Current: 40A; Wire Section: 6 to 20 (AWG) 13.30 to 0.52 (mm^2); Working Voltage: 300V (AC); Manufacturer Part Number: 691256610010; Product Series: WR-TBL; ComponentLink1Description: Website Link; ComponentLink1URL: https://www.we-online.com; ComponentLink2Description: Datasheet Link; ComponentLink2URL: https://www.we-online.com/components/products/datasheet/691256610010; Mount: Through Hole; Operating Temperature Min: -30degC; Operating Temperature Max: 120degC; Packaging: Box; Application: Rising Cage Clamp; Number of Pins: 10; Number of Rows: 1; Orientation: Horizontal; Lead Pitch: 10.16mm
footprint 691256610010
pins: 1, 2, 3, 4, 5, 6, 7, 8, 9, 10

## 691256610011
designator J?  (value not drawn)
WR-TBL Series 2566 Horizontal Entry, THT, pitch 10.16mm, 11p; Manufacturer: Wurth Elektronik; Modularity: No; Rated Current: 40A; Wire Section: 6 to 20 (AWG) 13.30 to 0.52 (mm^2); Working Voltage: 300V (AC); Manufacturer Part Number: 691256610011; Product Series: WR-TBL; ComponentLink1Description: Website Link; ComponentLink1URL: https://www.we-online.com; ComponentLink2Description: Datasheet Link; ComponentLink2URL: https://www.we-online.com/components/products/datasheet/691256610011; Mount: Through Hole; Operating Temperature Min: -30degC; Operating Temperature Max: 120degC; Packaging: Box; Application: Rising Cage Clamp; Number of Pins: 11; Number of Rows: 1; Orientation: Horizontal; Lead Pitch: 10.16mm
footprint 691256610011
pins: 1, 2, 3, 4, 5, 6, 7, 8, 9, 10, 11

## 691256610012
designator J?  (value not drawn)
WR-TBL Series 2566 Horizontal Entry, THT, pitch 10.16mm, 12p; Manufacturer: Wurth Elektronik; Modularity: No; Rated Current: 40A; Wire Section: 6 to 20 (AWG) 13.30 to 0.52 (mm^2); Working Voltage: 300V (AC); Manufacturer Part Number: 691256610012; Product Series: WR-TBL; ComponentLink1Description: Website Link; ComponentLink1URL: https://www.we-online.com; ComponentLink2Description: Datasheet Link; ComponentLink2URL: https://www.we-online.com/components/products/datasheet/691256610012; Mount: Through Hole; Operating Temperature Min: -30degC; Operating Temperature Max: 120degC; Packaging: Box; Application: Rising Cage Clamp; Number of Pins: 12; Number of Rows: 1; Orientation: Horizontal; Lead Pitch: 10.16mm
footprint 691256610012
pins: 1, 2, 3, 4, 5, 6, 7, 8, 9, 10, 11, 12

## 691508110302
designator J?  (value not drawn)
WR-TBL Series 5081 Horizontal Entry, SMT, pitch 3.5mm, 02p; Manufacturer: Wurth Elektronik; Modularity: No; Rated Current: 10A; Wire Section: 30 to 16 (AWG) 0.05 to 1.31 (mm^2); Working Voltage: 300V (AC); Manufacturer Part Number: 691508110302; Product Series: WR-TBL; ComponentLink1Description: Website Link; ComponentLink1URL: https://www.we-online.com; ComponentLink2Description: Datasheet Link; ComponentLink2URL: https://www.we-online.com/components/products/datasheet/691508110302; Mount: Surface Mount; Operating Temperature Min: -40degC; Operating Temperature Max: 130degC; Packaging: Tape and Reel; Application: Rising Cage Clamp; Number of Pins: 2; Number of Rows: 1; Orientation: Horizontal; Lead Pitch: 3.5mm
footprint 691508110302
pins: 1, 2

## 691508110303
designator J?  (value not drawn)
WR-TBL Series 5081 Horizontal Entry, SMT, pitch 3.5mm, 03p; Manufacturer: Wurth Elektronik; Modularity: No; Rated Current: 10A; Wire Section: 30 to 16 (AWG) 0.05 to 1.31 (mm^2); Working Voltage: 300V (AC); Manufacturer Part Number: 691508110303; Product Series: WR-TBL; ComponentLink1Description: Website Link; ComponentLink1URL: https://www.we-online.com; ComponentLink2Description: Datasheet Link; ComponentLink2URL: https://www.we-online.com/components/products/datasheet/691508110303; Mount: Surface Mount; Operating Temperature Min: -40degC; Operating Temperature Max: 130degC; Packaging: Tape and Reel; Application: Rising Cage Clamp; Number of Pins: 3; Number of Rows: 1; Orientation: Horizontal; Lead Pitch: 3.5mm
footprint 691508110303
pins: 1, 2, 3

## 691508110304
designator J?  (value not drawn)
WR-TBL Series 5081 Horizontal Entry, SMT, pitch 3.5mm, 04p; Manufacturer: Wurth Elektronik; Modularity: No; Rated Current: 10A; Wire Section: 30 to 16 (AWG) 0.05 to 1.31 (mm^2); Working Voltage: 300V (AC); Manufacturer Part Number: 691508110304; Product Series: WR-TBL; ComponentLink1Description: Website Link; ComponentLink1URL: https://www.we-online.com; ComponentLink2Description: Datasheet Link; ComponentLink2URL: https://www.we-online.com/components/products/datasheet/691508110304; Mount: Surface Mount; Operating Temperature Min: -40degC; Operating Temperature Max: 130degC; Packaging: Tape and Reel; Application: Rising Cage Clamp; Number of Pins: 4; Number of Rows: 1; Orientation: Horizontal; Lead Pitch: 3.5mm
footprint 691508110304
pins: 1, 2, 3, 4

## 691508110305
designator J?  (value not drawn)
WR-TBL Series 5081 Horizontal Entry, SMT, pitch 3.5mm, 05p; Manufacturer: Wurth Elektronik; Modularity: No; Rated Current: 10A; Wire Section: 30 to 16 (AWG) 0.05 to 1.31 (mm^2); Working Voltage: 300V (AC); Manufacturer Part Number: 691508110305; Product Series: WR-TBL; ComponentLink1Description: Website Link; ComponentLink1URL: https://www.we-online.com; ComponentLink2Description: Datasheet Link; ComponentLink2URL: https://www.we-online.com/components/products/datasheet/691508110305; Mount: Surface Mount; Operating Temperature Min: -40degC; Operating Temperature Max: 130degC; Packaging: Tape and Reel; Application: Rising Cage Clamp; Number of Pins: 5; Number of Rows: 1; Orientation: Horizontal; Lead Pitch: 3.5mm
footprint 691508110305
pins: 1, 2, 3, 4, 5

## 691508110306
designator J?  (value not drawn)
WR-TBL Series 5081 Horizontal Entry, SMT, pitch 3.5mm, 06p; Manufacturer: Wurth Elektronik; Modularity: No; Rated Current: 10A; Wire Section: 30 to 16 (AWG) 0.05 to 1.31 (mm^2); Working Voltage: 300V (AC); Manufacturer Part Number: 691508110306; Product Series: WR-TBL; ComponentLink1Description: Website Link; ComponentLink1URL: https://www.we-online.com; ComponentLink2Description: Datasheet Link; ComponentLink2URL: https://www.we-online.com/components/products/datasheet/691508110306; Mount: Surface Mount; Operating Temperature Min: -40degC; Operating Temperature Max: 130degC; Packaging: Tape and Reel; Application: Rising Cage Clamp; Number of Pins: 6; Number of Rows: 1; Orientation: Horizontal; Lead Pitch: 3.5mm
footprint 691508110306
pins: 1, 2, 3, 4, 5, 6

## 691508110308
designator J?  (value not drawn)
WR-TBL Series 5081 Horizontal Entry, SMT, pitch 3.5mm, 08p; Manufacturer: Wurth Elektronik; Modularity: No; Rated Current: 10A; Wire Section: 30 to 16 (AWG) 0.05 to 1.31 (mm^2); Working Voltage: 300V (AC); Manufacturer Part Number: 691508110308; Product Series: WR-TBL; ComponentLink1Description: Website Link; ComponentLink1URL: https://www.we-online.com; ComponentLink2Description: Datasheet Link; ComponentLink2URL: https://www.we-online.com/components/products/datasheet/691508110308; Mount: Surface Mount; Operating Temperature Min: -40degC; Operating Temperature Max: 130degC; Packaging: Tape and Reel; Application: Rising Cage Clamp; Number of Pins: 8; Number of Rows: 1; Orientation: Horizontal; Lead Pitch: 3.5mm
footprint 691508110308
pins: 1, 2, 3, 4, 5, 6, 7, 8

## 691709710302
designator J?  (value not drawn)
WR-TBL Series 7097 Horizontal Entry, SMT, pitch 5mm, 02p; Manufacturer: Wurth Elektronik; Modularity: No; Rated Current: 6A; Wire Section: 30 to 14 (AWG) 0.2 to 1.5 (mm^2); Working Voltage: 300V (AC); Manufacturer Part Number: 691709710302; Product Series: WR-TBL; ComponentLink1Description: Website Link; ComponentLink1URL: https://www.we-online.com; ComponentLink2Description: Datasheet Link; ComponentLink2URL: https://www.we-online.com/components/products/datasheet/691709710302; Mount: Surface Mount; Operating Temperature Min: -40degC; Operating Temperature Max: 130degC; Packaging: Tape and Reel; Application: Rising Cage Clamp; Number of Pins: 2; Number of Rows: 1; Orientation: Horizontal; Lead Pitch: 5mm
footprint 691709710302
pins: 1, 2